# Altium footprint library Trans_NFET_ROHM_EM6K6T2R.PcbLib: 1 footprints
Each footprint in its own frame and in the unit in brackets; x right, y up, seen from the top. Pads: shape width x height; smd on the part's side, far side on the other; paste and mask are expansions set on the pad; w line width, h text height; cw(c..) or ccw(c..) is an arc to the next point about the centre after c.
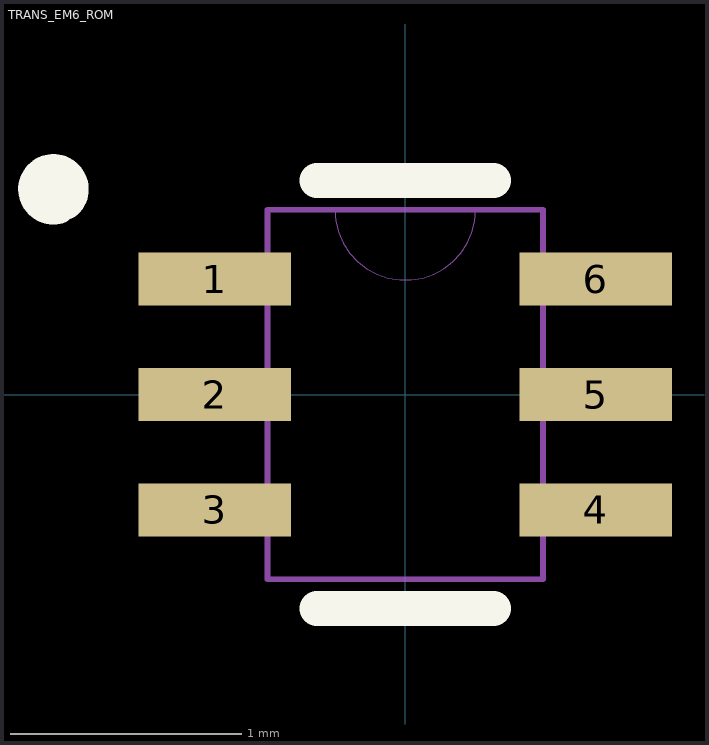
[diagram p0: the footprint, top view; thin cyan lines are the x and y axes]

## TRANS_EM6_ROM [mil]
pads (6):
  rect 26x9 smd paste+0 mask+0: 1(-32.5,19.68) 2(-32.5,0) 3(-32.5,-19.68) 4(32.5,-19.68) 5(32.5,0) 6(32.5,19.68)
Top Overlay:
  lines w6: -59.26,32.09 cw(c-60,35) -57.96,32.8 ; -15.03,-36.5 15.03,-36.5 ; -15.03,36.5 15.03,36.5
Mechanical 13:
  lines w0: -12,31.5 ccw(c0,31.5) 12,31.5
  lines w1: -23.5,-31.5 -23.5,31.5 23.5,31.5 23.5,-31.5 -23.5,-31.5
3D body "TRANS_EM6_ROM.step": height 22.09, standoff 0, extent -33.5,-31.5 33.5,31.5